# EAGLE library part RASPBERRY-PI-P5P6 (library arno)
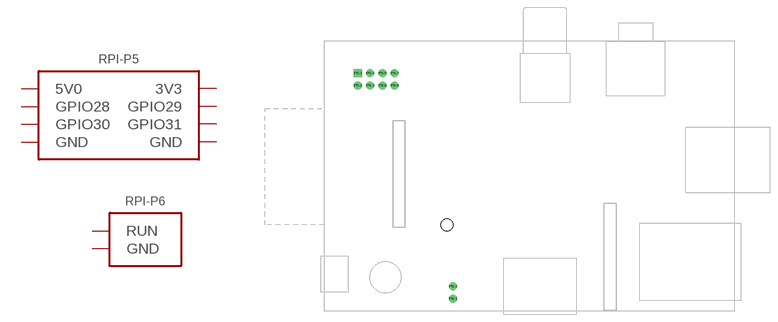
[diagram p14: symbol with the pads of RBPI-B2-P5P6; footprint RBPI-B2-P5P6]

Designator prefix RPI; gates -P5=RBPI-P5 -P6=RBPI-P6

## RASPBERRY-PI-P5P6  [RBPI-B2-P5P6]
P5-1  -P5:5V0  pwr
P5-2  -P5:3V3  pwr
P5-3  -P5:GPIO28
P5-4  -P5:GPIO29
P5-5  -P5:GPIO30
P5-6  -P5:GPIO31
P5-7  -P5:GND  pwr
P5-8  -P5:GND  pwr
P6-1  -P6:RUN
P6-2  -P6:GND  pwr

## Footprint RBPI-B2-P5P6 (pad centres in mm)
drill 1 pad 1.676 square: P5-1 6.985,49.212
drill 1 pad 1.676: P5-2 6.985,46.672; P5-3 9.525,49.212; P5-4 9.525,46.672; P5-5 12.065,49.212; P5-6 12.065,46.672; P5-7 14.605,49.212; P5-8 14.605,46.672; P6-2 26.67,5.08
drill 1 pad 1.676 octagon: P6-1 26.67,2.54
hole 2.5 at 25.4,17.78